# Altium footprint library BASIC Library.PCBLIB: 464 footprints (part 23 of 30)
Each footprint in its own frame and in the unit in brackets; x right, y up, seen from the top. Pads: shape width x height; smd on the part's side, far side on the other; paste and mask are expansions set on the pad; w line width, h text height; cw(c..) or ccw(c..) is an arc to the next point about the centre after c.
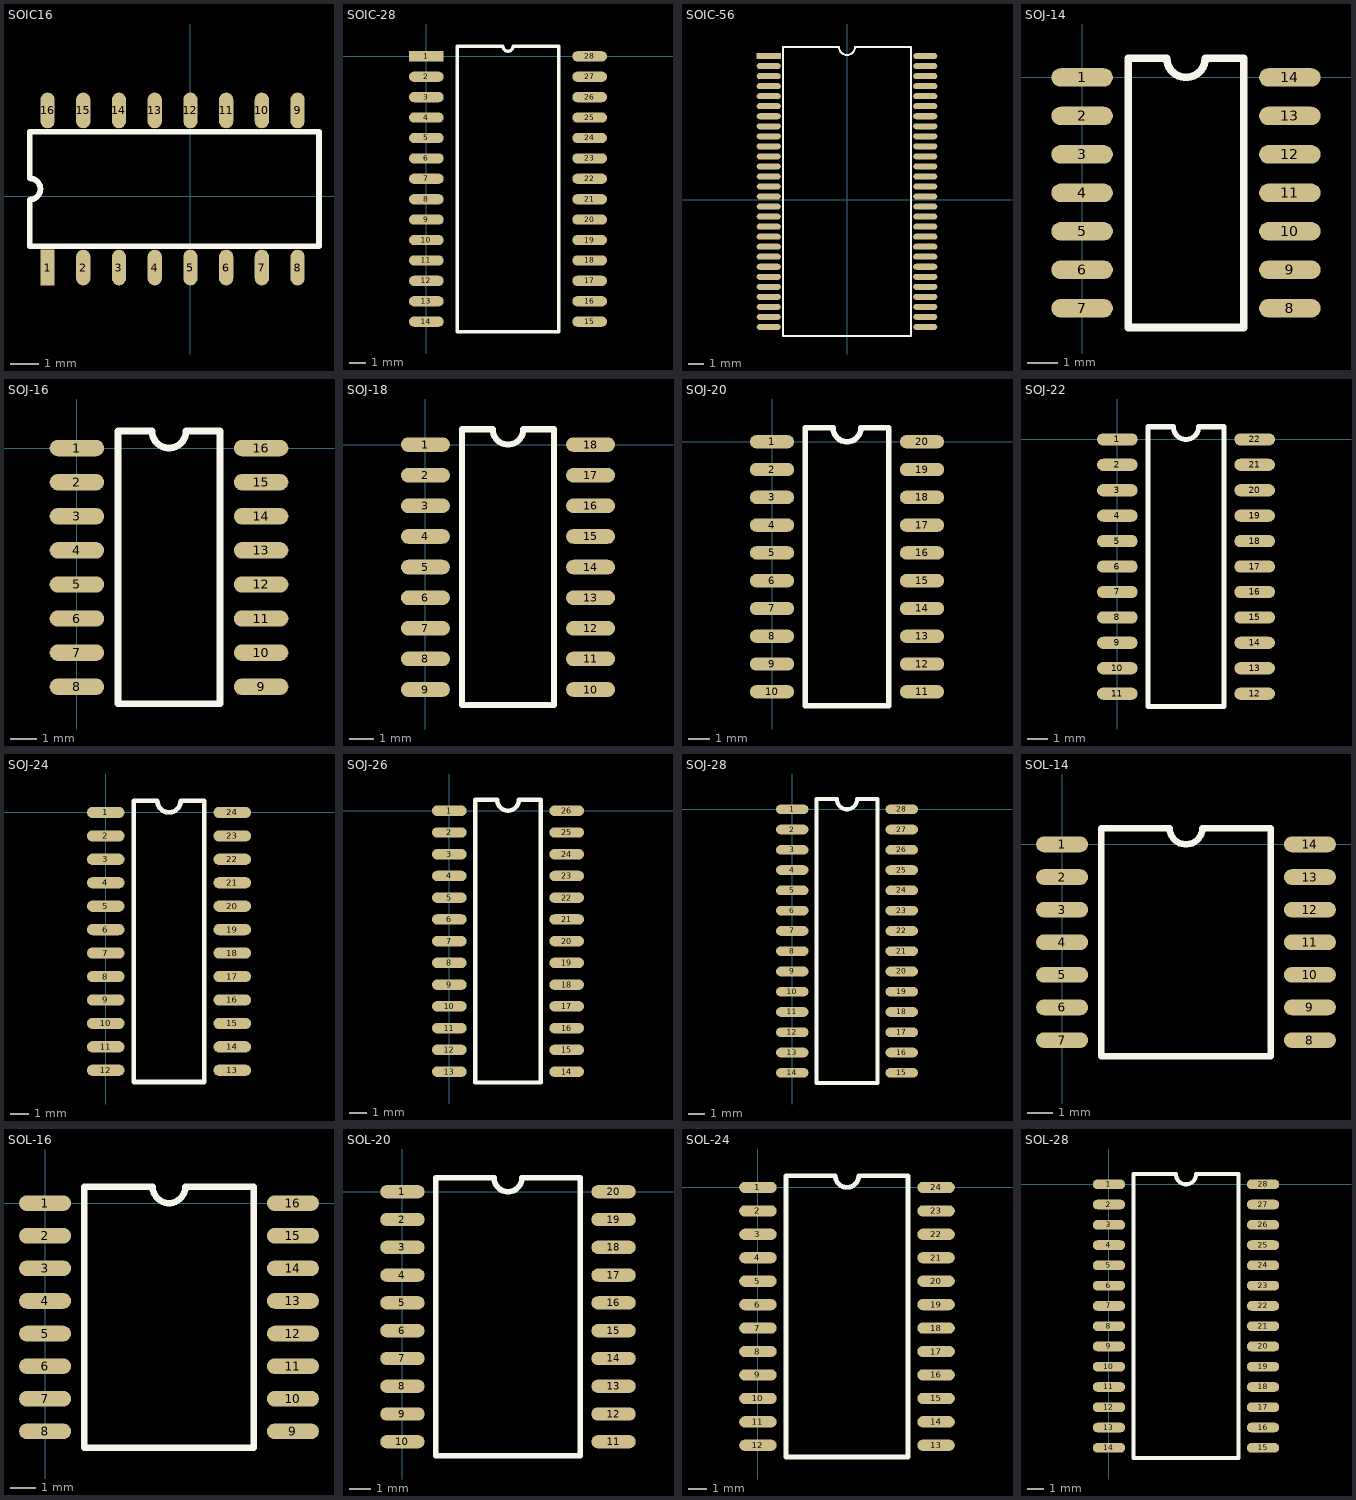
[diagram p22: the footprints below, top view; thin cyan lines are the x and y axes]

## SOIC16 [mil]
pads (16):
  rect 20x50 smd: 1(-200,-100)
  oval 20x50 smd: 2(-150,-100) 3(-100,-100) 4(-50,-100) 5(0,-100) 6(50,-100) 7(100,-100) 8(150,-100) 9(150,120) 10(100,120) 11(50,120) 12(0,120) 13(-50,120) 14(-100,120) 15(-150,120) 16(-200,120)
TopOverlay:
  lines w8: -225,-70 180,-70 180,90 -225,90 -225,25 cw(c-225,10) -210,10 cw(c-225,10) -225,-5 -225,-70

## SOIC-28 [mil]
pads (28):
  rect 85x25 smd: 1(0,0)
  oval 85x25 smd: 2(0,-50) 3(0,-100) 4(0,-150) 5(0,-200) 6(0,-250) 7(0,-300) 8(0,-350) 9(0,-400) 10(0,-450) 11(0,-500) 12(0,-550) 13(0,-600) 14(0,-650) 15(400,-650) 16(400,-600) 17(400,-550) 18(400,-500) 19(400,-450) 20(400,-400) 21(400,-350) 22(400,-300) 23(400,-250) 24(400,-200) 25(400,-150) 26(400,-100) 27(400,-50) 28(400,0)
TopOverlay:
  lines w8: 75.5,-675 324.5,-675 324.5,25 212.5,25 cw(c200,25) 187.5,25 75.5,25 75.5,-675

## SOIC-56 [mil]
pads (56):
  rect 60x15 smd: 1(-195,357.5)
  oval 60x15 smd: 2(-195,332.5) 3(-195,307.5) 4(-195,282.5) 5(-195,257.5) 6(-195,232.5) 7(-195,207.5) 8(-195,182.5) 9(-195,157.5) 10(-195,132.5) 11(-195,107.5) 12(-195,82.5) 13(-195,57.5) 14(-195,32.5) 15(-195,7.5) 16(-195,-17.5) 17(-195,-42.5) 18(-195,-67.5) 19(-195,-92.5) 20(-195,-117.5) 21(-195,-142.5) 22(-195,-167.5) 23(-195,-192.5) 24(-195,-217.5) 25(-195,-242.5) 26(-195,-267.5) 27(-195,-292.5) 28(-195,-317.5) 29(195,-317.5) 30(195,-292.5) 31(195,-267.5) 32(195,-242.5) 33(195,-217.5) 34(195,-192.5) 35(195,-167.5) 36(195,-142.5) 37(195,-117.5) 38(195,-92.5) 39(195,-67.5) 40(195,-42.5) 41(195,-17.5) 42(195,7.5) 43(195,32.5) 44(195,57.5) 45(195,82.5) 46(195,107.5) 47(195,132.5) 48(195,157.5) 49(195,182.5) 50(195,207.5) 51(195,232.5) 52(195,257.5) 53(195,282.5) 54(195,307.5) 55(195,332.5) 56(195,357.5)
TopOverlay:
  lines w5: -160,-340 160,-340 160,380 20,380 cw(c0,380) 0,360 cw(c0,380) -20,380 -160,380 -160,-340

## SOJ-14 [mil]
pads (14):
  oval 80x24 smd: 1(0,0) 2(0,-50) 3(0,-100) 4(0,-150) 5(0,-200) 6(0,-250) 7(0,-300) 8(270,-300) 9(270,-250) 10(270,-200) 11(270,-150) 12(270,-100) 13(270,-50) 14(270,0)
TopOverlay:
  lines w10: 60,-325 60,25 110,25 ccw(c135,25) 160,25 210,25 210,-325 60,-325

## SOJ-16 [mil]
pads (16):
  oval 80x24 smd: 1(0,0) 2(0,-50) 3(0,-100) 4(0,-150) 5(0,-200) 6(0,-250) 7(0,-300) 8(0,-350) 9(270,-350) 10(270,-300) 11(270,-250) 12(270,-200) 13(270,-150) 14(270,-100) 15(270,-50) 16(270,0)
TopOverlay:
  lines w10: 60,-375 210,-375 210,25 160,25 cw(c135,25) 110,25 60,25 60,-375

## SOJ-18 [mil]
pads (18):
  oval 80x24 smd: 1(0,0) 2(0,-50) 3(0,-100) 4(0,-150) 5(0,-200) 6(0,-250) 7(0,-300) 8(0,-350) 9(0,-400) 10(270,-400) 11(270,-350) 12(270,-300) 13(270,-250) 14(270,-200) 15(270,-150) 16(270,-100) 17(270,-50) 18(270,0)
TopOverlay:
  lines w10: 60,-425 210,-425 210,25 160,25 cw(c135,25) 110,25 60,25 60,-425

## SOJ-20 [mil]
pads (20):
  oval 80x24 smd: 1(0,0) 2(0,-50) 3(0,-100) 4(0,-150) 5(0,-200) 6(0,-250) 7(0,-300) 8(0,-350) 9(0,-400) 10(0,-450) 11(270,-450) 12(270,-400) 13(270,-350) 14(270,-300) 15(270,-250) 16(270,-200) 17(270,-150) 18(270,-100) 19(270,-50) 20(270,0)
TopOverlay:
  lines w10: 60,-475 210,-475 210,25 160,25 cw(c135,25) 110,25 60,25 60,-475

## SOJ-22 [mil]
pads (22):
  oval 80x24 smd: 1(0,0) 2(0,-50) 3(0,-100) 4(0,-150) 5(0,-200) 6(0,-250) 7(0,-300) 8(0,-350) 9(0,-400) 10(0,-450) 11(0,-500) 12(270,-500) 13(270,-450) 14(270,-400) 15(270,-350) 16(270,-300) 17(270,-250) 18(270,-200) 19(270,-150) 20(270,-100) 21(270,-50) 22(270,0)
TopOverlay:
  lines w10: 60,-525 210,-525 210,25 160,25 cw(c135,25) 110,25 60,25 60,-525

## SOJ-24 [mil]
pads (24):
  oval 80x24 smd: 1(0,0) 2(0,-50) 3(0,-100) 4(0,-150) 5(0,-200) 6(0,-250) 7(0,-300) 8(0,-350) 9(0,-400) 10(0,-450) 11(0,-500) 12(0,-550) 13(270,-550) 14(270,-500) 15(270,-450) 16(270,-400) 17(270,-350) 18(270,-300) 19(270,-250) 20(270,-200) 21(270,-150) 22(270,-100) 23(270,-50) 24(270,0)
TopOverlay:
  lines w10: 60,-575 210,-575 210,25 160,25 cw(c135,25) 110,25 60,25 60,-575

## SOJ-26 [mil]
pads (26):
  oval 80x24 smd: 1(0,0) 2(0,-50) 3(0,-100) 4(0,-150) 5(0,-200) 6(0,-250) 7(0,-300) 8(0,-350) 9(0,-400) 10(0,-450) 11(0,-500) 12(0,-550) 13(0,-600) 14(270,-600) 15(270,-550) 16(270,-500) 17(270,-450) 18(270,-400) 19(270,-350) 20(270,-300) 21(270,-250) 22(270,-200) 23(270,-150) 24(270,-100) 25(270,-50) 26(270,0)
TopOverlay:
  lines w10: 60,-625 60,25 110,25 ccw(c135,25) 160,25 210,25 210,-625 60,-625

## SOJ-28 [mil]
pads (28):
  oval 80x24 smd: 1(0,0) 2(0,-50) 3(0,-100) 4(0,-150) 5(0,-200) 6(0,-250) 7(0,-300) 8(0,-350) 9(0,-400) 10(0,-450) 11(0,-500) 12(0,-550) 13(0,-600) 14(0,-650) 15(270,-650) 16(270,-600) 17(270,-550) 18(270,-500) 19(270,-450) 20(270,-400) 21(270,-350) 22(270,-300) 23(270,-250) 24(270,-200) 25(270,-150) 26(270,-100) 27(270,-50) 28(270,0)
TopOverlay:
  lines w10: 60,-675 210,-675 210,25 160,25 cw(c135,25) 110,25 60,25 60,-675

## SOL-14 [mil]
pads (14):
  oval 80x24 smd: 1(0,0) 2(0,-50) 3(0,-100) 4(0,-150) 5(0,-200) 6(0,-250) 7(0,-300) 8(380,-300) 9(380,-250) 10(380,-200) 11(380,-150) 12(380,-100) 13(380,-50) 14(380,0)
TopOverlay:
  lines w10: 60,-325 320,-325 320,25 215,25 cw(c190,25) 165,25 60,25 60,-325

## SOL-16 [mil]
pads (16):
  oval 80x24 smd: 1(0,0) 2(0,-50) 3(0,-100) 4(0,-150) 5(0,-200) 6(0,-250) 7(0,-300) 8(0,-350) 9(380,-350) 10(380,-300) 11(380,-250) 12(380,-200) 13(380,-150) 14(380,-100) 15(380,-50) 16(380,0)
TopOverlay:
  lines w10: 60,-375 320,-375 320,25 215,25 cw(c190,25) 165,25 60,25 60,-375

## SOL-20 [mil]
pads (20):
  oval 80x24 smd: 1(0,0) 2(0,-50) 3(0,-100) 4(0,-150) 5(0,-200) 6(0,-250) 7(0,-300) 8(0,-350) 9(0,-400) 10(0,-450) 11(380,-450) 12(380,-400) 13(380,-350) 14(380,-300) 15(380,-250) 16(380,-200) 17(380,-150) 18(380,-100) 19(380,-50) 20(380,0)
TopOverlay:
  lines w10: 60,-475 320,-475 320,25 215,25 cw(c190,25) 165,25 60,25 60,-475

## SOL-24 [mil]
pads (24):
  oval 80x24 smd: 1(0,0) 2(0,-50) 3(0,-100) 4(0,-150) 5(0,-200) 6(0,-250) 7(0,-300) 8(0,-350) 9(0,-400) 10(0,-450) 11(0,-500) 12(0,-550) 13(380,-550) 14(380,-500) 15(380,-450) 16(380,-400) 17(380,-350) 18(380,-300) 19(380,-250) 20(380,-200) 21(380,-150) 22(380,-100) 23(380,-50) 24(380,0)
TopOverlay:
  lines w10: 60,-575 320,-575 320,25 215,25 cw(c190,25) 165,25 60,25 60,-575

## SOL-28 [mil]
pads (28):
  oval 80x24 smd: 1(0,0) 2(0,-50) 3(0,-100) 4(0,-150) 5(0,-200) 6(0,-250) 7(0,-300) 8(0,-350) 9(0,-400) 10(0,-450) 11(0,-500) 12(0,-550) 13(0,-600) 14(0,-650) 15(380,-650) 16(380,-600) 17(380,-550) 18(380,-500) 19(380,-450) 20(380,-400) 21(380,-350) 22(380,-300) 23(380,-250) 24(380,-200) 25(380,-150) 26(380,-100) 27(380,-50) 28(380,0)
TopOverlay:
  lines w10: 60,-675 320,-675 320,25 215,25 cw(c190,25) 165,25 60,25 60,-675